# Altium schematic symbol library 1500uF_SMD.SchLib: 1 symbol
Pins are listed as number, name and electrical type; pins without a type are passive.

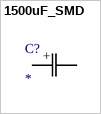
[diagram p0: symbol 1500uF_SMD]

## 1500uF_SMD
designator C?
CAP ALUM 1500UF 20% 35V SMD / Manufacturer PN: EEV-FK1V152M; Manufacturer PN: EEV-FK1V152M
footprint 1500uF_SMD
pins: 1, 2
text: +